# EAGLE library part UCC27523DR (library micromousev2Parts)
Dual, 5A, High-Speed Low-Side Power MOSFET Driver Source: Datasheet <http://www.ti.com/lit/gpn/ucc27523>
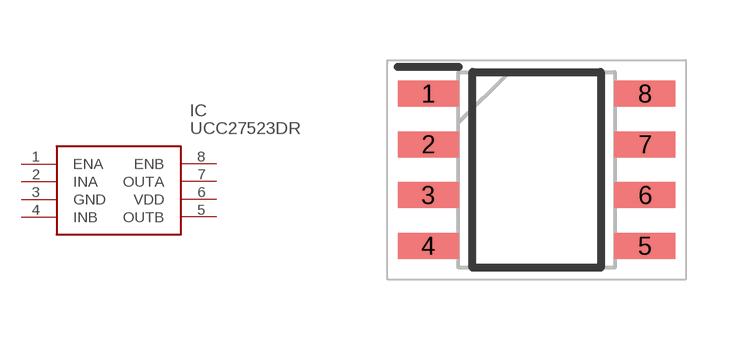
[diagram p13: symbol with the pads of SOIC127P600X175-8N; footprint SOIC127P600X175-8N]

Designator prefix IC

## UCC27523DR (ARROW_PART_NUMBER: UCC27523DR; ARROW_PRICE/STOCK: https://www.arrow.com/en/products/ucc27523dr/texas-instruments; DESCRIPTION: Dual, 5A, High-Speed Low-Side Power MOSFET Driver; HEIGHT: 1.75mm; MANUFACTURER_NAME: Texas Instruments; MANUFACTURER_PART_NUMBER: UCC27523DR)  [SOIC127P600X175-8N]
1  ENA
2  INA
3  GND
4  INB
5  OUTB
6  VDD
7  OUTA
8  ENB

## Footprint SOIC127P600X175-8N (pad centres in mm)
D (R-PDSO-G8)
smd 1.525 x 0.65: 1 -2.712,1.905; 2 -2.712,0.635; 3 -2.712,-0.635; 4 -2.712,-1.905; 5 2.712,-1.905; 6 2.712,-0.635; 7 2.712,0.635; 8 2.712,1.905